# Altium schematic symbol library EG701_BMS.SchLib: 23 symbols
Pins are listed as number, name and electrical type; pins without a type are passive.

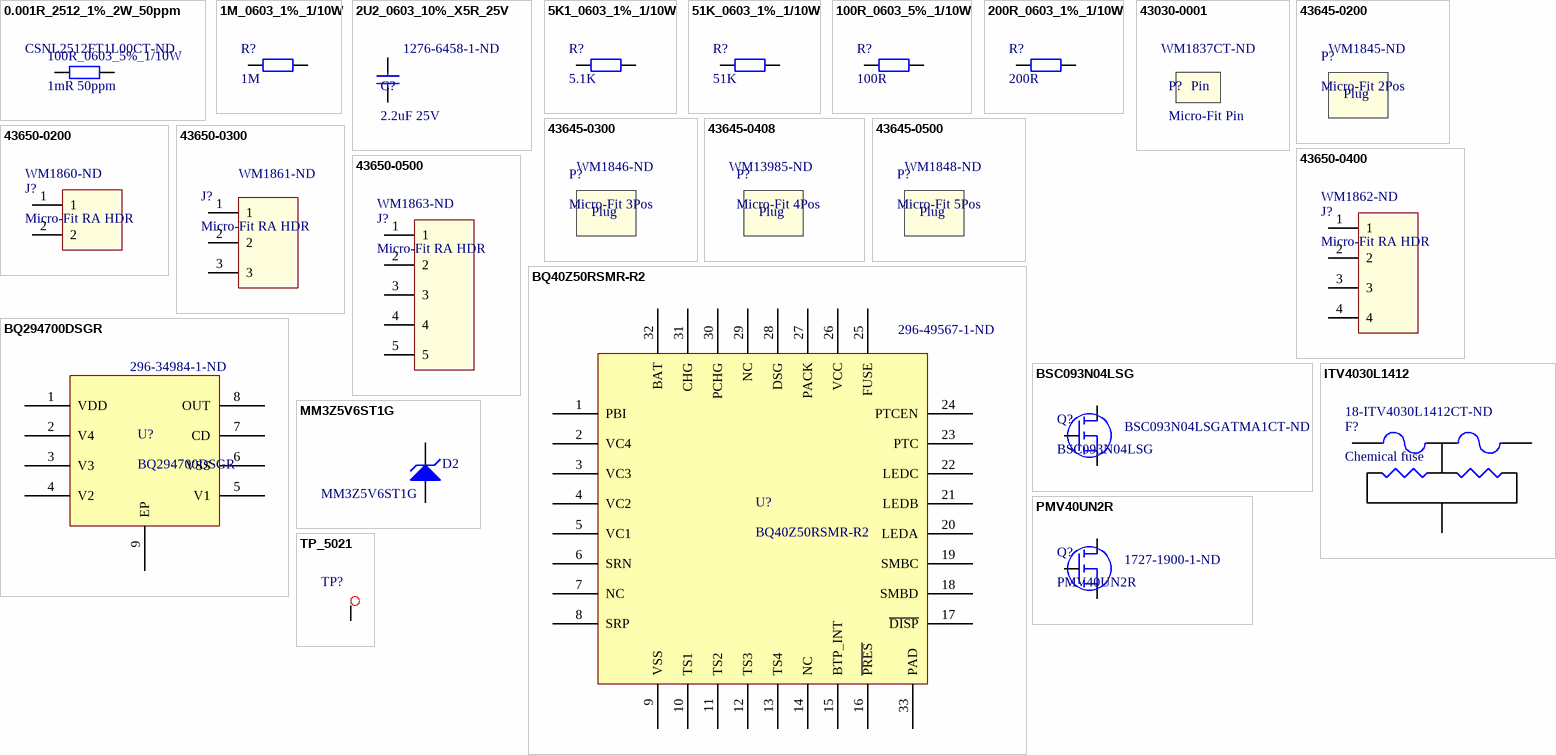
[diagram p0: symbols 0.001R_2512_1%_2W_50ppm to TP_5021]

## 0.001R_2512_1%_2W_50ppm
designator 100R_0603_5%_1/10W, comment 1mR 50ppm  Supplier Part Number 1: CSNL2512FT1L00CT-ND
RES 0.001 OHM 1% 2W 2512; Manufacturer 1: Stackpole Electronics; Manufacturer Part Number 1: CSNL2512FT1L00; Temperature Coefficient: 50ppm/°C; Supplier 1: Digi-Key; Stock 1: 126804; Pricing 1: 1=0.65000, 10=0.53900, 25=0.46200, 50=0.41580, 100=0.36190, 250=0.32340, 500=0.26180, 1000=0.21175 (USD); RoHS: Yes; Mount: Surface Mount; Case/Package: 2512; Contact Plating: Tin,Matte; Case Code (Metric): 6432; Case Code (Imperial): 2512; Min Operating Temperature: -55°C; Max Operating Temperature: 170°C; Max Power Dissipation: 2W; Composition: Metal Foil; Number of Terminations: 2; Packaging: Tape and Reel; Resistance: 1mR; Tolerance: 1%; Power Rating: 2W; Features: Moisture Resistant; Length: 0.25inch; Height: 0.033inch; Width: 0.125inch; Radiation Hardening: No; Lead Free: Lead Free; ComponentLink1URL: http://components.arrow.com/part/dataview/47858191S8378277N1174?src-supplier=Arrow; ComponentLink1Description: http://components.arrow.com/part/dataview/47858191S8378277N1174?src-supplier=Arrow; ComponentLink2URL: http://www.seielect.com/Catalog/SEI-csnl.pdf?src-supplier=Future+Electronics; ComponentLink2Description: http://www.seielect.com/Catalog/SEI-csnl.pdf?src-supplier=Future+Electronics; ComponentLink3URL: https://www.seielect.com/catalog/SEI-Packaging.pdf?src-supplier=Digi-Key; ComponentLink3Description: https://www.seielect.com/catalog/SEI-Packaging.pdf?src-supplier=Digi-Key; ComponentLink4URL: https://www.seielect.com/Catalog/SEI-csnl.pdf?src-supplier=Digi-Key; ComponentLink4Description: https://www.seielect.com/Catalog/SEI-csnl.pdf?src-supplier=Digi-Key; ComponentLink5URL: https://www.seielect.com/Catalog/SEI-CSNL.pdf?src-supplier=Avnet; ComponentLink5Description: https://www.seielect.com/Catalog/SEI-CSNL.pdf?src-supplier=Avnet
footprint R2512_M_GENERIC
pins: 1, 2

## 1M_0603_1%_1/10W
designator R?, comment 1M
Yageo RC Series Thick Film Surface Mount Resistor 0603 Case 1M 1% 0.1W 100ppm/C; Manufacturer Part Number 1: RC0603FR-071ML; Voltage Rating: 50V; Resistance: 1MR; Power Rating: 100mW; Temperature Coefficient: 100ppm/°C; Supplier 1: Digi-Key; Manufacturer 1: Yageo; Stock 1: 1716035; Pricing 1: 1=0.10000, 10=0.02200, 100=0.00900, 1000=0.00405, 2500=0.00352 (USD); RoHS: Yes; Case/Package: 0603; Number of Pins: 2; Case Code (Imperial): 0603; Case Code (Metric): 1608; Min Operating Temperature: -55°C; Max Operating Temperature: 155°C; Voltage Rating (DC): 50V; Tolerance: 1%; Packaging: Tape and Reel; Package Quantity: 5000; Termination: SMD/SMT; Composition: Thick Film; Military Standard: Not; Length: 1.6mm; Height: 0.45mm; Width: 0.8mm; Depth: 0.8mm; REACH SVHC: No SVHC; Lead Free: Lead Free; ComponentLink1URL: https://datasheet.ciiva.com/11819/0900766b80f96399-11819295.pdf?src-supplier=RSComponents; ComponentLink1Description: https://datasheet.ciiva.com/11819/0900766b80f96399-11819295.pdf?src-supplier=RSComponents; ComponentLink2URL: https://datasheet.ciiva.com/7983/443971-7983614.pdf?src-supplier=Element14; ComponentLink2Description: https://datasheet.ciiva.com/7983/443971-7983614.pdf?src-supplier=Element14; ComponentLink3URL: https://datasheet.ciiva.com/12555/rc0603-272842-12555388.pdf?src-supplier=Mouser; ComponentLink3Description: https://datasheet.ciiva.com/12555/rc0603-272842-12555388.pdf?src-supplier=Mouser; Supplier Part Number 1: 311-1.00MHRCT-ND
footprint R0603_GENERIC (http://www.vishay.com/docs/28745/soldpads.pdf)
pins: 1, 2

## 2U2_0603_10%_X5R_25V
designator C?, comment 2.2uF 25V  Supplier Part Number 1: 1276-6458-1-ND
Ceramic capacitor SMD 0805 2.2 µF 25 V 10 %; Manufacturer 1: Samsung; Manufacturer Part Number 1: CL21A225KAFNNNG; Tolerance: 10%; Supplier 1: Digi-Key; Stock 1: 290666; Pricing 1: 1=0.15000, 10=0.10500, 50=0.05940, 100=0.04920, 500=0.03452, 1000=0.02858 (USD); RoHS: Yes; Mount: Surface Mount; Case/Package: 0805; Case Code (Imperial): 0805; Case Code (Metric): 2012; Material: Ceramic; Min Operating Temperature: -55°C; Max Operating Temperature: 85°C; Package Quantity: 3000; Packaging: Tape and Reel; Capacitance: 2.2uF; Voltage Rating: 25V; Length: 0.079inch; Width: 0.049inch; Thickness: 0.053inch; ComponentLink1URL: https://datasheet.ciiva.com/25730/cl21a225kafnnng-25730829.pdf?src-supplier=Digi-Key; ComponentLink1Description: https://datasheet.ciiva.com/25730/cl21a225kafnnng-25730829.pdf?src-supplier=Digi-Key; ComponentLink2URL: https://datasheet.ciiva.com/29199/455579-da-01-en-vs-kondensator-0805-29199247.pdf?src-supplier=Conrad; ComponentLink2Description: https://datasheet.ciiva.com/29199/455579-da-01-en-vs-kondensator-0805-29199247.pdf?src-supplier=Conrad
footprint C0603_GENERIC
pins: 1, 2

## 5K1_0603_1%_1/10W
designator R?, comment 5.1K
RES SMD 5.1K OHM 1% 1/10W 0603; Manufacturer 1: Yageo; Manufacturer Part Number 1: RC0603FR-075K1L; Resistance: 5.1kR; Power Rating: 100mW; Voltage Rating: 50V; Temperature Coefficient: 100ppm/°C; Supplier 1: Digi-Key; Stock 1: 2194732; Pricing 1: 1=0.10000, 10=0.02200, 100=0.00900, 1000=0.00405, 2500=0.00352 (USD); RoHS: Yes; Case/Package: 0603; Number of Pins: 2; Case Code (Imperial): 0603; Case Code (Metric): 1608; Min Operating Temperature: -55°C; Max Operating Temperature: 155°C; Tolerance: 1%; Packaging: Tape and Reel; Package Quantity: 1; Termination: SMD/SMT; Composition: Thick Film; Number of Terminations: 2; Max Power Dissipation: 100mW; Voltage Rating (DC): 50V; Features: Moisture Resistant; Military Standard: Not; Length: 0.063inch; Height: 0.022inch; Width: 0.031inch; Depth: 0.8mm; Lead Free: Lead Free; REACH SVHC: No SVHC; ComponentLink1URL: https://datasheet.ciiva.com/46395/443971-46395016.pdf?src-supplier=Element14; ComponentLink1Description: https://datasheet.ciiva.com/46395/443971-46395016.pdf?src-supplier=Element14; ComponentLink2URL: https://datasheet.ciiva.com/15189/getdatasheetpartid-326732-15189786.pdf?src-supplier=Verical; ComponentLink2Description: https://datasheet.ciiva.com/15189/getdatasheetpartid-326732-15189786.pdf?src-supplier=Verical; ComponentLink3URL: https://datasheet.ciiva.com/2454/pyu-r-int-thick-7-2454045.pdf?src-supplier=Digi-Key; ComponentLink3Description: https://datasheet.ciiva.com/2454/pyu-r-int-thick-7-2454045.pdf?src-supplier=Digi-Key; ComponentLink4URL: https://datasheet.ciiva.com/2454/pyu-r-int-thick-7-2454046.pdf?src-supplier=Digi-Key; ComponentLink4Description: https://datasheet.ciiva.com/2454/pyu-r-int-thick-7-2454046.pdf?src-supplier=Digi-Key; ComponentLink5URL: https://datasheet.ciiva.com/2454/pyu-r-int-thick-7-2454047.pdf?src-supplier=Digi-Key; ComponentLink5Description: https://datasheet.ciiva.com/2454/pyu-r-int-thick-7-2454047.pdf?src-supplier=Digi-Key; Supplier Part Number 1: 311-5.10KHRCT-ND
footprint R0603_GENERIC (http://www.vishay.com/docs/28745/soldpads.pdf)
pins: 1, 2

## 51K_0603_1%_1/10W
designator R?, comment 51K
RES SMD 51K OHM 1% 1/10W 0603; Manufacturer 1: Yageo; Manufacturer Part Number 1: RC0603FR-0751KL; Voltage Rating (DC): 50V; Resistance: 51kR; Power Rating: 100mW; Temperature Coefficient: 100ppm/°C; Supplier 1: Digi-Key; Stock 1: 3246526; Pricing 1: 1=0.10000, 10=0.02200, 100=0.00900, 1000=0.00405, 2500=0.00352 (USD); RoHS: Yes; Case/Package: 0603; Number of Pins: 2; Case Code (Imperial): 0603; Case Code (Metric): 1608; Min Operating Temperature: -55°C; Max Operating Temperature: 155°C; Tolerance: 1%; Voltage Rating: 50V; Packaging: Tape and Reel; Package Quantity: 1; Features: Moisture Resistant; Termination: SMD/SMT; Composition: Thick Film; Number of Terminations: 2; Max Power Dissipation: 100mW; Length: 1.6mm; Height: 0.45mm; Width: 0.8mm; Depth: 0.8mm; Lead Free: Lead Free; REACH SVHC: No SVHC; ComponentLink1URL: https://datasheet.ciiva.com/11819/0900766b80f96399-11819378.pdf?src-supplier=RSComponents; ComponentLink1Description: https://datasheet.ciiva.com/11819/0900766b80f96399-11819378.pdf?src-supplier=RSComponents; ComponentLink2URL: https://datasheet.ciiva.com/12558/rc0603-272842-12558554.pdf?src-supplier=Mouser; ComponentLink2Description: https://datasheet.ciiva.com/12558/rc0603-272842-12558554.pdf?src-supplier=Mouser; ComponentLink3URL: https://datasheet.ciiva.com/2454/pyu-r-int-thick-7-2454123.pdf?src-supplier=Digi-Key; ComponentLink3Description: https://datasheet.ciiva.com/2454/pyu-r-int-thick-7-2454123.pdf?src-supplier=Digi-Key; ComponentLink4URL: https://datasheet.ciiva.com/2454/pyu-r-int-thick-7-2454124.pdf?src-supplier=Digi-Key; ComponentLink4Description: https://datasheet.ciiva.com/2454/pyu-r-int-thick-7-2454124.pdf?src-supplier=Digi-Key; ComponentLink5URL: https://datasheet.ciiva.com/2454/pyu-r-int-thick-7-2454125.pdf?src-supplier=Digi-Key; ComponentLink5Description: https://datasheet.ciiva.com/2454/pyu-r-int-thick-7-2454125.pdf?src-supplier=Digi-Key; ComponentLink6URL: https://datasheet.ciiva.com/46395/443971-46395014.pdf?src-supplier=Element14; ComponentLink6Description: https://datasheet.ciiva.com/46395/443971-46395014.pdf?src-supplier=Element14; Supplier Part Number 1: 311-51.0KHRCT-ND
footprint R0603_GENERIC (http://www.vishay.com/docs/28745/soldpads.pdf)
pins: 1, 2

## 100R_0603_5%_1/10W
designator R?, comment 100R
Res Thick Film 0603 100 Ohm 5% 0.1W(1/10W) ±100ppm/C Molded SMD Paper T/R; Manufacturer 1: Yageo; Manufacturer Part Number 1: RC0603JR-07100RL; Power Rating: 100mW; Voltage Rating: 50V; Temperature Coefficient: 100ppm/°C; Supplier 1: Digi-Key; Stock 1: 6886393; Pricing 1: 1=0.10000, 10=0.01800, 100=0.00740, 1000=0.00334, 2500=0.00290 (USD); RoHS: Yes; Case/Package: 0603; Number of Pins: 2; Case Code (Imperial): 0603; Case Code (Metric): 1608; Contact Plating: Tin,Matte; Min Operating Temperature: -55°C; Max Operating Temperature: 155°C; Resistance: 100R; Tolerance: 5%; Packaging: Tape and Reel; Voltage Rating (DC): 50V; Termination: SMD/SMT; Composition: Thick Film; Military Standard: Not; Length: 1.6mm; Width: 0.8mm; Depth: 0.8mm; Radiation Hardening: No; REACH SVHC: Unknown; Lead Free: Lead Free; ComponentLink1URL: https://datasheet.ciiva.com/15189/getdatasheetpartid-325207-15189846.pdf?src-supplier=Verical; ComponentLink1Description: https://datasheet.ciiva.com/15189/getdatasheetpartid-325207-15189846.pdf?src-supplier=Verical; ComponentLink2URL: https://datasheet.ciiva.com/7746/443971-7746425.pdf?src-supplier=Element14; ComponentLink2Description: https://datasheet.ciiva.com/7746/443971-7746425.pdf?src-supplier=Element14; ComponentLink3URL: https://datasheet.ciiva.com/8883/pyu-rc0603-51-rohs-l-4-8883047.pdf?src-supplier=Avnet; ComponentLink3Description: https://datasheet.ciiva.com/8883/pyu-rc0603-51-rohs-l-4-8883047.pdf?src-supplier=Avnet; ComponentLink4URL: https://datasheet.ciiva.com/7746/443971-7746426.pdf?src-supplier=Element14; ComponentLink4Description: https://datasheet.ciiva.com/7746/443971-7746426.pdf?src-supplier=Element14; Supplier Part Number 1: 311-100GRCT-ND
footprint R0603_GENERIC (http://www.vishay.com/docs/28745/soldpads.pdf)
pins: 1, 2

## 200R_0603_1%_1/10W
designator R?, comment 200R
RES SMD 200 OHM 1% 1/10W 0603; Manufacturer 1: Yageo; Manufacturer Part Number 1: RC0603FR-07200RL; Temperature Coefficient: 100ppm/°C; Power Rating: 100mW; Voltage Rating: 50V; Working Voltage: 75V; Supplier 1: Digi-Key; Stock 1: 2577421; Pricing 1: 1=0.10000, 10=0.02200, 100=0.00900, 1000=0.00405, 2500=0.00352 (USD); RoHS: Yes; Case/Package: 0603; Number of Pins: 2; Case Code (Imperial): 0603; Case Code (Metric): 1608; Min Operating Temperature: -55°C; Max Operating Temperature: 155°C; Termination: SMD/SMT; Composition: Thick Film; Packaging: Tape and Reel; Resistance: 200R; Tolerance: 1%; Package Quantity: 5000; Voltage Rating (DC): 50V; Number of Terminations: 2; Military Standard: Not; Length: 1.6mm; Height: 0.45mm; Depth: 0.8mm; Width: 0.8mm; Lead Free: Lead Free; REACH SVHC: No SVHC; ComponentLink1URL: https://datasheet.ciiva.com/11809/0900766b80f96399-11809240.pdf?src-supplier=RSComponents; ComponentLink1Description: https://datasheet.ciiva.com/11809/0900766b80f96399-11809240.pdf?src-supplier=RSComponents; ComponentLink2URL: https://datasheet.ciiva.com/46395/443971-46395029.pdf?src-supplier=Element14; ComponentLink2Description: https://datasheet.ciiva.com/46395/443971-46395029.pdf?src-supplier=Element14; Supplier Part Number 1: 311-200HRCT-ND
footprint R0603_GENERIC (http://www.vishay.com/docs/28745/soldpads.pdf)
pins: 1, 2

## 43030-0001
designator P?, comment Micro-Fit Pin  Supplier Part Number 1: WM1837CT-ND  (mechanical)
microfit 3.0 female crimp terminal 20-24 awg; Manufacturer 1: Molex; Manufacturer Part Number 1: 43030-0001; Connector Type: Connector,PCB,Signal,Power,Crimp,Socket; Current Rating: 5A; Contact Resistance: 10mR; Voltage Rating: 250V; Shielding: Unshielded; Wire Gauge (Max): 20AWG; Wire Gauge (Min): 24AWG; Glow Wire Compliant: Non-compliant; Supplier 1: Digi-Key; Stock 1: 910268; Pricing 1: 1=0.11000, 10=0.10800, 25=0.08000, 50=0.06860, 100=0.06640, 250=0.05720, 500=0.05492, 1000=0.04805, 2500=0.04347 (USD); RoHS: Yes; Mount: Cable; Case/Package: 0001; Contact Plating: Tin; Contact Material: Bronze,Tin; Min Operating Temperature: -40°C; Max Operating Temperature: 105°C; Termination: Crimp; Packaging: Tape and Reel; Number of Rows: 2; Orientation: Straight; Package Quantity: 12000; Gender: Female; Contact Gender: Female; Max Current Rating: 5A; Voltage Rating (DC): 250V; Length: 11mm; Height: 2.29mm; Depth: 2.54mm; Wire/Cable Gauge: 24AWG; Radiation Hardening: No; Lead Free: Lead Free; REACH SVHC: Unknown; Halogen Free: Low Halogen; ComponentLink1URL: https://datasheet.ciiva.com/25907/0430300001-crimp-terminals-25907746.pdf?src-supplier=Avnet+Europe; ComponentLink1Description: https://datasheet.ciiva.com/25907/0430300001-crimp-terminals-25907746.pdf?src-supplier=Avnet+Europe; ComponentLink2URL: https://datasheet.ciiva.com/16134/1669030430300001-crimp-terminals-16134517.pdf?src-supplier=Onlinecomponents.com; ComponentLink2Description: https://datasheet.ciiva.com/16134/1669030430300001-crimp-terminals-16134517.pdf?src-supplier=Onlinecomponents.com; ComponentLink3URL: https://datasheet.ciiva.com/28644/1710118-28644501.pdf?src-supplier=Element14; ComponentLink3Description: https://datasheet.ciiva.com/28644/1710118-28644501.pdf?src-supplier=Element14; ComponentLink4URL: https://datasheet.ciiva.com/3916/100050430300001-crimp-terminals-3916634.pdf?src-supplier=Arrow+Electronics; ComponentLink4Description: https://datasheet.ciiva.com/3916/100050430300001-crimp-terminals-3916634.pdf?src-supplier=Arrow+Electronics; ComponentLink5URL: https://datasheet.ciiva.com/30259/0430300001-crimp-terminals-30259530.pdf?src-supplier=Onlinecomponents.com; ComponentLink5Description: https://datasheet.ciiva.com/30259/0430300001-crimp-terminals-30259530.pdf?src-supplier=Onlinecomponents.com; ComponentLink6URL: https://datasheet.ciiva.com/34303/1931851-34303323.pdf?src-supplier=Jameco; ComponentLink6Description: https://datasheet.ciiva.com/34303/1931851-34303323.pdf?src-supplier=Jameco; ComponentLink7URL: https://datasheet.ciiva.com/11721/0900766b80d5b250-11721212.pdf?src-supplier=RSComponents; ComponentLink7Description: https://datasheet.ciiva.com/11721/0900766b80d5b250-11721212.pdf?src-supplier=RSComponents; ComponentLink8URL: https://datasheet.ciiva.com/5156/0430300001-crimp-terminals-5156149.pdf?src-supplier=Mouser; ComponentLink8Description: https://datasheet.ciiva.com/5156/0430300001-crimp-terminals-5156149.pdf?src-supplier=Mouser; ComponentLink9URL: https://datasheet.ciiva.com/32422/04402477-1-32422378.pdf?src-supplier=Distrelec; ComponentLink9Description: https://datasheet.ciiva.com/32422/04402477-1-32422378.pdf?src-supplier=Distrelec; ComponentLink10URL: https://datasheet.ciiva.com/10409/0430300001-crimp-terminals-10409455.pdf?src-supplier=Avnet; ComponentLink10Description: https://datasheet.ciiva.com/10409/0430300001-crimp-terminals-10409455.pdf?src-supplier=Avnet
text: Pin

## 43645-0200
designator P?, comment Micro-Fit 2Pos  Supplier Part Number 1: WM1845-ND  (mechanical)
Female contact housing single row 3 mm Pole no. 1x2 Micro-Fit, 43645-0200, Molex; Connector Type: Socket,Power,Rectangular; Number of Positions: 2; Gender: Receptacle; Current Rating: 5A; Voltage Rating: 600V; Contact Resistance: 10MR; Voltage Rating (AC): 250V; Pitch: 3mm; Glow Wire Compliant: Non-compliant; Approvals: UL,CSA,TUV; Supplier 1: Digi-Key; Manufacturer 1: Molex; Manufacturer Part Number 1: 43645-0200; Stock 1: 146748; Pricing 1: 1=0.32000, 10=0.30600, 25=0.26240, 50=0.22280, 100=0.21410, 250=0.19228, 500=0.18354, 1000=0.15295, 2500=0.13984 (USD); RoHS: Yes; Mount: Free Hanging,Cable; Color: Black; Housing Material: Nylon; Contact Material: Bronze; Contact Plating: Nickel; Housing Color: Black; Material: Polyester; Min Operating Temperature: -40°C; Max Operating Temperature: 105°C; Packaging: Bulk; Termination: Crimp; Orientation: Straight; Number of Rows: 1; Number of Contacts: 2; Package Quantity: 5000; Number of Circuits: 2; Number of Poles: 2; Working Voltage: 250V; Length: 8.28mm; Height: 5.3mm; Depth: 14mm; Radiation Hardening: No; Flammability Rating: UL94 V-0; REACH SVHC: Unknown; Halogen Free: Low Halogen; Lead Free: Lead Free; ComponentLink1URL: https://datasheet.ciiva.com/16661/0436450200-crimp-housings-16661793.pdf?src-supplier=Avnet+Europe; ComponentLink1Description: https://datasheet.ciiva.com/16661/0436450200-crimp-housings-16661793.pdf?src-supplier=Avnet+Europe; ComponentLink2URL: https://datasheet.ciiva.com/16127/0436450200-crimp-housings-16127842.pdf?src-supplier=Onlinecomponents.com; ComponentLink2Description: https://datasheet.ciiva.com/16127/0436450200-crimp-housings-16127842.pdf?src-supplier=Onlinecomponents.com; ComponentLink3URL: https://datasheet.ciiva.com/15178/getdatasheetpartid-152868-15178725.pdf?src-supplier=Verical; ComponentLink3Description: https://datasheet.ciiva.com/15178/getdatasheetpartid-152868-15178725.pdf?src-supplier=Verical; ComponentLink4URL: https://datasheet.ciiva.com/5158/0436450200-crimp-housings-148631-5158919.pdf?src-supplier=Mouser; ComponentLink4Description: https://datasheet.ciiva.com/5158/0436450200-crimp-housings-148631-5158919.pdf?src-supplier=Mouser; ComponentLink5URL: https://datasheet.ciiva.com/19472/883974-19472986.pdf?src-supplier=Jameco; ComponentLink5Description: https://datasheet.ciiva.com/19472/883974-19472986.pdf?src-supplier=Jameco; ComponentLink6URL: https://datasheet.ciiva.com/11718/0900766b8024dedf-11718029.pdf?src-supplier=RSComponents; ComponentLink6Description: https://datasheet.ciiva.com/11718/0900766b8024dedf-11718029.pdf?src-supplier=RSComponents; ComponentLink7URL: https://datasheet.ciiva.com/1446/1898109-1446803.pdf?src-supplier=Element14; ComponentLink7Description: https://datasheet.ciiva.com/1446/1898109-1446803.pdf?src-supplier=Element14; ComponentLink8URL: https://datasheet.ciiva.com/14155/04401883-14155295.pdf?src-supplier=Distrelec; ComponentLink8Description: https://datasheet.ciiva.com/14155/04401883-14155295.pdf?src-supplier=Distrelec
text: Plug

## 43645-0300
designator P?, comment Micro-Fit 3Pos  Supplier Part Number 1: WM1846-ND  (mechanical)
MICRO-FIT 3.0 Series 3mm Pitch 3 Way 1 Row Female Straight PCB Housing 43645; Manufacturer 1: Molex; Manufacturer Part Number 1: 43645-0300; Connector Type: Socket,Power,Rectangular; Number of Positions: 3; Gender: Receptacle; Current Rating: 5A; Voltage Rating: 600V; Contact Resistance: 10MR; Voltage Rating (AC): 250V; Glow Wire Compliant: Non-compliant; Approvals: UL,CSA,TUV; Supplier 1: Digi-Key; Stock 1: 82426; Pricing 1: 1=0.38000, 10=0.36000, 25=0.30880, 50=0.26240, 100=0.25210, 250=0.22640, 500=0.21610, 1000=0.18008, 2500=0.16464 (USD); RoHS: Yes; Mount: Free Hanging; Color: Black; Housing Material: Polyester; Contact Material: Bronze; Contact Plating: Nickel; Housing Color: Black; Material: Polyester; Min Operating Temperature: -40°C; Max Operating Temperature: 105°C; Packaging: Bulk; Termination: Crimp; Orientation: Straight; Number of Rows: 1; Number of Contacts: 3; Package Quantity: 5000; Number of Circuits: 3; Number of Poles: 3; Working Voltage: 250V; Length: 9.85mm; Height: 5.3mm; Pitch: 3mm; Depth: 14mm; Radiation Hardening: No; Flammability Rating: UL94 V-0; Lead Free: Lead Free; REACH SVHC: Unknown; Halogen Free: Low Halogen; ComponentLink1URL: https://datasheet.ciiva.com/5157/0436450300-crimp-housings-148841-5157922.pdf?src-supplier=Mouser; ComponentLink1Description: https://datasheet.ciiva.com/5157/0436450300-crimp-housings-148841-5157922.pdf?src-supplier=Mouser; ComponentLink2URL: https://datasheet.ciiva.com/19473/883991-19473715.pdf?src-supplier=Jameco; ComponentLink2Description: https://datasheet.ciiva.com/19473/883991-19473715.pdf?src-supplier=Jameco; ComponentLink3URL: https://datasheet.ciiva.com/16661/0436450300-crimp-housings-16661794.pdf?src-supplier=Avnet+Europe; ComponentLink3Description: https://datasheet.ciiva.com/16661/0436450300-crimp-housings-16661794.pdf?src-supplier=Avnet+Europe; ComponentLink4URL: https://datasheet.ciiva.com/11718/0900766b8024dedf-11718164.pdf?src-supplier=RSComponents; ComponentLink4Description: https://datasheet.ciiva.com/11718/0900766b8024dedf-11718164.pdf?src-supplier=RSComponents; ComponentLink5URL: https://datasheet.ciiva.com/16127/0436450300-crimp-housings-16127846.pdf?src-supplier=Onlinecomponents.com; ComponentLink5Description: https://datasheet.ciiva.com/16127/0436450300-crimp-housings-16127846.pdf?src-supplier=Onlinecomponents.com; ComponentLink6URL: https://datasheet.ciiva.com/14155/04401883-14155256.pdf?src-supplier=Distrelec; ComponentLink6Description: https://datasheet.ciiva.com/14155/04401883-14155256.pdf?src-supplier=Distrelec; ComponentLink7URL: https://datasheet.ciiva.com/1446/1898110-1446884.pdf?src-supplier=Element14; ComponentLink7Description: https://datasheet.ciiva.com/1446/1898110-1446884.pdf?src-supplier=Element14; ComponentLink8URL: https://datasheet.ciiva.com/45847/97750436450300-crimp-housings-45847222.pdf?src-supplier=Onlinecomponents.com; ComponentLink8Description: https://datasheet.ciiva.com/45847/97750436450300-crimp-housings-45847222.pdf?src-supplier=Onlinecomponents.com; ComponentLink9URL: https://datasheet.ciiva.com/18453/70190864-18453659.pdf?src-supplier=Allied+Electronics; ComponentLink9Description: https://datasheet.ciiva.com/18453/70190864-18453659.pdf?src-supplier=Allied+Electronics; ComponentLink10URL: https://datasheet.ciiva.com/16660/0436450300-crimp-housings-16660890.pdf?src-supplier=Avnet+Europe; ComponentLink10Description: https://datasheet.ciiva.com/16660/0436450300-crimp-housings-16660890.pdf?src-supplier=Avnet+Europe; ComponentLink11URL: https://datasheet.ciiva.com/10392/0436450300-crimp-housings-10392092.pdf?src-supplier=Avnet; ComponentLink11Description: https://datasheet.ciiva.com/10392/0436450300-crimp-housings-10392092.pdf?src-supplier=Avnet
text: Plug

## 43645-0408
designator P?, comment Micro-Fit 4Pos  Supplier Part Number 1: WM13985-ND  (mechanical)
Conn Housing F 4 POS 3mm Crimp ST Cable Mount Micro-Fit 3.0™ Bag; Manufacturer 1: Molex; Manufacturer Part Number 1: 0436450408; Connector Type: Receptacle,Socket; Number of Positions: 4; Gender: Female; Supplier 1: Digi-Key; Stock 1: 10634; Pricing 1: 1=0.51000, 10=0.47600, 25=0.42880, 50=0.38120, 100=0.36520, 250=0.33348, 500=0.31760, 1000=0.26202, 2500=0.23820 (USD); RoHS: Yes; Mount: Free Hanging; Color: Black; Packaging: Bulk; Number of Rows: 1; Orientation: Straight; Package Quantity: 3000; Number of Contacts: 4; Fastening Type: Latch; Termination: Crimp; Length: 12.85mm; Pitch: 3mm; Depth: 14mm; Radiation Hardening: No; ComponentLink1URL: https://datasheet.ciiva.com/6793/436450608-sd-6793924.pdf?src-supplier=Digi-Key; ComponentLink1Description: https://datasheet.ciiva.com/6793/436450608-sd-6793924.pdf?src-supplier=Digi-Key; ComponentLink2URL: https://datasheet.ciiva.com/3923/279960436450408-crimp-housings-3923345.pdf?src-supplier=Arrow+Electronics; ComponentLink2Description: https://datasheet.ciiva.com/3923/279960436450408-crimp-housings-3923345.pdf?src-supplier=Arrow+Electronics
text: Plug

## 43645-0500
designator P?, comment Micro-Fit 5Pos  Supplier Part Number 1: WM1848-ND  (mechanical)
GLOVE, POLYAMIDE, L/FREE, PU, SIZE 6 - More Details; Manufacturer 1: Molex; Manufacturer Part Number 1: 43645-0500; Number of Positions: 5; Gender: Female; Current Rating: 5A; Voltage Rating: 600V; Pitch: 3mm; Glow Wire Compliant: Non-compliant; Approvals: UL,CSA,TUV; Supplier 1: Digi-Key; Stock 1: 18539; Pricing 1: 1=0.42000, 10=0.39000, 25=0.35120, 50=0.31220, 100=0.29920, 250=0.27320, 500=0.26020, 1000=0.21467, 2500=0.19515 (USD); RoHS: Yes; Mount: Cable; Color: Black; Housing Material: Polyester; Housing Color: Black; Min Operating Temperature: -40°C; Max Operating Temperature: 105°C; Packaging: Bulk; Termination: Crimp; Orientation: Straight; Number of Rows: 1; Number of Contacts: 5; Package Quantity: 2500; Number of Circuits: 5; Contact Gender: Female; Length: 15.85mm; Height: 5.3mm; Depth: 14mm; Radiation Hardening: No; Flammability Rating: UL94 V-0; Lead Free: Lead Free; REACH SVHC: Unknown; ComponentLink1URL: https://datasheet.ciiva.com/30243/0436450500-crimp-housings-30243008.pdf?src-supplier=Onlinecomponents.com; ComponentLink1Description: https://datasheet.ciiva.com/30243/0436450500-crimp-housings-30243008.pdf?src-supplier=Onlinecomponents.com; ComponentLink2URL: https://datasheet.ciiva.com/10401/0436450500-crimp-housings-10401377.pdf?src-supplier=Avnet; ComponentLink2Description: https://datasheet.ciiva.com/10401/0436450500-crimp-housings-10401377.pdf?src-supplier=Avnet; ComponentLink3URL: https://datasheet.ciiva.com/11718/0900766b8024dedf-11718881.pdf?src-supplier=RSComponents; ComponentLink3Description: https://datasheet.ciiva.com/11718/0900766b8024dedf-11718881.pdf?src-supplier=RSComponents; ComponentLink4URL: https://datasheet.ciiva.com/1454/1631139-1454948.pdf?src-supplier=Farnell; ComponentLink4Description: https://datasheet.ciiva.com/1454/1631139-1454948.pdf?src-supplier=Farnell; ComponentLink5URL: https://datasheet.ciiva.com/19473/884011-19473046.pdf?src-supplier=Jameco; ComponentLink5Description: https://datasheet.ciiva.com/19473/884011-19473046.pdf?src-supplier=Jameco; ComponentLink6URL: https://datasheet.ciiva.com/16127/679980436450500-crimp-housings-16127855.pdf?src-supplier=Onlinecomponents.com; ComponentLink6Description: https://datasheet.ciiva.com/16127/679980436450500-crimp-housings-16127855.pdf?src-supplier=Onlinecomponents.com; ComponentLink7URL: https://datasheet.ciiva.com/16660/0436450500-crimp-housings-16660693.pdf?src-supplier=Avnet+Europe; ComponentLink7Description: https://datasheet.ciiva.com/16660/0436450500-crimp-housings-16660693.pdf?src-supplier=Avnet+Europe; ComponentLink8URL: https://datasheet.ciiva.com/1446/1597443-1446886.pdf?src-supplier=Element14; ComponentLink8Description: https://datasheet.ciiva.com/1446/1597443-1446886.pdf?src-supplier=Element14; ComponentLink9URL: https://datasheet.ciiva.com/1446/1631139-1446887.pdf?src-supplier=Element14; ComponentLink9Description: https://datasheet.ciiva.com/1446/1631139-1446887.pdf?src-supplier=Element14; ComponentLink10URL: https://datasheet.ciiva.com/14155/04401883-14155258.pdf?src-supplier=Distrelec; ComponentLink10Description: https://datasheet.ciiva.com/14155/04401883-14155258.pdf?src-supplier=Distrelec
text: Plug

## 43650-0200
designator J?, comment Micro-Fit RA HDR  Supplier Part Number 1: WM1860-ND
MOLEX   43650-0200   HEADER, R/A, SINGLE ROW, 2 WAY; Contact Resistance: 10mR; Number of Positions: 2; Connector Type: Plug,Socket; Current Rating: 5A; Voltage Rating (AC): 250V; Voltage Rating: 600V; Gender: Male; Insulation Resistance: 1GR; Pitch: 3mm; Glow Wire Compliant: Compliant; Supplier 1: Digi-Key; Manufacturer 1: Molex; Manufacturer Part Number 1: 43650-0200; Stock 1: 15790; Pricing 1: 1=0.96000, 10=0.84100, 100=0.72560, 500=0.59364, 1000=0.52768, 5000=0.46172, 10000=0.43863 (USD); RoHS: Yes; Mount: Through Hole; Contact Plating: Tin; Contact Material: Brass,Tin; Color: Black; Housing Color: Black; Housing Material: Thermoplastic; Min Operating Temperature: -40°C; Max Operating Temperature: 105°C; Number of Rows: 1; Packaging: Tray; Termination: Solder; Number of Contacts: 2; Orientation: Right Angle; Package Quantity: 3927; Working Voltage: 250V; Number of Circuits: 2; Voltage Rating (DC): 250V; Length: 9.65mm; Height: 5.57mm; Depth: 9.9mm; Radiation Hardening: No; Flammability Rating: UL94 V-0; REACH SVHC: Unknown; Halogen Free: Low Halogen; Lead Free: Lead Free; ComponentLink1URL: https://datasheet.ciiva.com/14155/04402066-14155224.pdf?src-supplier=Distrelec; ComponentLink1Description: https://datasheet.ciiva.com/14155/04402066-14155224.pdf?src-supplier=Distrelec; ComponentLink2URL: https://datasheet.ciiva.com/5158/0436500200-pcb-headers-148844-5158523.pdf?src-supplier=Mouser; ComponentLink2Description: https://datasheet.ciiva.com/5158/0436500200-pcb-headers-148844-5158523.pdf?src-supplier=Mouser; ComponentLink3URL: https://datasheet.ciiva.com/11748/0900766b80d6135b-11748140.pdf?src-supplier=RSComponents; ComponentLink3Description: https://datasheet.ciiva.com/11748/0900766b80d6135b-11748140.pdf?src-supplier=RSComponents; ComponentLink4URL: https://datasheet.ciiva.com/22683/1709823-22683551.pdf?src-supplier=Element14; ComponentLink4Description: https://datasheet.ciiva.com/22683/1709823-22683551.pdf?src-supplier=Element14; ComponentLink5URL: https://datasheet.ciiva.com/30161/48630436500200-pcb-headers-30161343.pdf?src-supplier=Onlinecomponents.com; ComponentLink5Description: https://datasheet.ciiva.com/30161/48630436500200-pcb-headers-30161343.pdf?src-supplier=Onlinecomponents.com; ComponentLink6URL: https://datasheet.ciiva.com/9432/0436500200-pcb-headers-9432849.pdf?src-supplier=Avnet; ComponentLink6Description: https://datasheet.ciiva.com/9432/0436500200-pcb-headers-9432849.pdf?src-supplier=Avnet; ComponentLink7URL: https://datasheet.ciiva.com/16089/1029720436500200-pcb-headers-16089218.pdf?src-supplier=Onlinecomponents.com; ComponentLink7Description: https://datasheet.ciiva.com/16089/1029720436500200-pcb-headers-16089218.pdf?src-supplier=Onlinecomponents.com; ComponentLink8URL: https://datasheet.ciiva.com/7920/1839562-7920756.pdf?src-supplier=Element14; ComponentLink8Description: https://datasheet.ciiva.com/7920/1839562-7920756.pdf?src-supplier=Element14; ComponentLink9URL: https://datasheet.ciiva.com/19462/884053-19462312.pdf?src-supplier=Jameco; ComponentLink9Description: https://datasheet.ciiva.com/19462/884053-19462312.pdf?src-supplier=Jameco; ComponentLink10URL: https://datasheet.ciiva.com/16654/0436500200-pcb-headers-16654958.pdf?src-supplier=Avnet+Europe; ComponentLink10Description: https://datasheet.ciiva.com/16654/0436500200-pcb-headers-16654958.pdf?src-supplier=Avnet+Europe
footprint 436500200 (Molex MicroFit RA 2P)
pins: 1, 2

## 43650-0300
designator J?, comment Micro-Fit RA HDR  Supplier Part Number 1: WM1861-ND
MOLEX - 43650-0300 - Wire-To-Board-Steckverbinder, 3 mm, 3 Kontakt(e), Stiftleiste, Baureihe Micro-Fit 3.0 43650; Number of Positions: 3; Contact Resistance: 10mR; Connector Type: Power,Rectangular; Max Voltage Rating (AC): 250V; Gender: Male; Insulation Resistance: 1GR; Voltage Rating: 600V; Current Rating: 5A; Pitch: 3mm; Glow Wire Compliant: Compliant; Supplier 1: Digi-Key; Manufacturer 1: Molex; Manufacturer Part Number 1: 43650-0300; Stock 1: 35363; Pricing 1: 1=1.10000, 10=0.96400, 100=0.83160, 500=0.68040, 1000=0.60480, 5000=0.52920, 10000=0.50274 (USD); RoHS: Yes; Mount: Through Hole,PCB; Color: Black; Housing Color: Black; Contact Material: Brass,Tin; Contact Plating: Tin,Lead,Bright; Housing Material: Thermoplastic; Min Operating Temperature: -40°C; Max Operating Temperature: 105°C; Termination: Solder; Orientation: Right Angle; Number of Rows: 1; Packaging: Tray; Number of Contacts: 3; Working Voltage: 250V; Voltage Rating (DC): 250V; Number of Circuits: 3; Number of Poles: 3; Package Quantity: 2975; Voltage Rating (AC): 250V; Max Current Rating: 5A; Length: 12.65mm; Height: 14.4mm; Depth: 9.9mm; Radiation Hardening: No; REACH SVHC: Unknown; Halogen Free: Low Halogen; Lead Free: Lead Free; Flammability Rating: UL94 V-0; ComponentLink1URL: https://datasheet.ciiva.com/30189/0436500300-pcb-headers-30189026.pdf?src-supplier=Onlinecomponents.com; ComponentLink1Description: https://datasheet.ciiva.com/30189/0436500300-pcb-headers-30189026.pdf?src-supplier=Onlinecomponents.com; ComponentLink2URL: https://datasheet.ciiva.com/16089/437910436500300-pcb-headers-16089189.pdf?src-supplier=Onlinecomponents.com; ComponentLink2Description: https://datasheet.ciiva.com/16089/437910436500300-pcb-headers-16089189.pdf?src-supplier=Onlinecomponents.com; ComponentLink3URL: https://datasheet.ciiva.com/5153/0436500300-pcb-headers-148847-5153495.pdf?src-supplier=Mouser; ComponentLink3Description: https://datasheet.ciiva.com/5153/0436500300-pcb-headers-148847-5153495.pdf?src-supplier=Mouser; ComponentLink4URL: https://datasheet.ciiva.com/11747/0900766b80d6135b-11747857.pdf?src-supplier=RSComponents; ComponentLink4Description: https://datasheet.ciiva.com/11747/0900766b80d6135b-11747857.pdf?src-supplier=RSComponents; ComponentLink5URL: https://datasheet.ciiva.com/16654/0436500300-pcb-headers-16654467.pdf?src-supplier=Avnet+Europe; ComponentLink5Description: https://datasheet.ciiva.com/16654/0436500300-pcb-headers-16654467.pdf?src-supplier=Avnet+Europe; ComponentLink6URL: https://datasheet.ciiva.com/19462/884141-19462202.pdf?src-supplier=Jameco; ComponentLink6Description: https://datasheet.ciiva.com/19462/884141-19462202.pdf?src-supplier=Jameco; ComponentLink7URL: https://datasheet.ciiva.com/9432/0436500300-pcb-headers-9432853.pdf?src-supplier=Avnet; ComponentLink7Description: https://datasheet.ciiva.com/9432/0436500300-pcb-headers-9432853.pdf?src-supplier=Avnet
footprint 436500300 (Molex MicroFit RA 3P)
pins: 1, 2, 3

## 43650-0400
designator J?, comment Micro-Fit RA HDR  Supplier Part Number 1: WM1862-ND
MOLEX         43650-0400             Wire-To-Board Connector, Micro-Fit 3.0 43650 Series, Solder, Header, 4 Contacts, 3 mm; Connector Type: Plug,Socket; Number of Positions: 4; Gender: Male; Voltage Rating (DC): 250V; Max Voltage Rating (AC): 600V; Current Rating: 5A; Contact Resistance: 10mR; Pitch: 3mm; Glow Wire Compliant: Compliant; Supplier 1: Digi-Key; Manufacturer 1: Molex; Manufacturer Part Number 1: 43650-0400; Stock 1: 6849; Pricing 1: 1=1.36000, 10=1.23000, 100=1.05400, 500=0.87832, 1000=0.75285, 5000=0.66753, 10000=0.65247 (USD); RoHS: Yes; Mount: Through Hole,Cable; Color: Black; Housing Material: Thermoplastic; Contact Material: Brass,Copper Alloy; Contact Plating: Tin,Bright; Housing Color: Black; Min Operating Temperature: -40°C; Max Operating Temperature: 105°C; Termination: Solder; Number of Contacts: 4; Orientation: Right Angle; Number of Rows: 1; Packaging: Tray; Number of Circuits: 4; Voltage Rating: 600V; Package Quantity: 2380; Length: 14.86mm; Height: 4.5mm; Depth: 3.6mm; Radiation Hardening: No; Flammability Rating: UL94 V-0; Halogen Free: Low Halogen; Lead Free: Contains Lead; REACH SVHC: Unknown; ComponentLink1URL: https://datasheet.ciiva.com/11748/0900766b80d6135b-11748178.pdf?src-supplier=RSComponents; ComponentLink1Description: https://datasheet.ciiva.com/11748/0900766b80d6135b-11748178.pdf?src-supplier=RSComponents; ComponentLink2URL: https://datasheet.ciiva.com/16085/0436500400-pcb-headers-16085752.pdf?src-supplier=Onlinecomponents.com; ComponentLink2Description: https://datasheet.ciiva.com/16085/0436500400-pcb-headers-16085752.pdf?src-supplier=Onlinecomponents.com; ComponentLink3URL: https://datasheet.ciiva.com/5151/0436500400-pcb-headers-148663-5151881.pdf?src-supplier=Mouser; ComponentLink3Description: https://datasheet.ciiva.com/5151/0436500400-pcb-headers-148663-5151881.pdf?src-supplier=Mouser; ComponentLink4URL: https://datasheet.ciiva.com/19462/884184-19462234.pdf?src-supplier=Jameco; ComponentLink4Description: https://datasheet.ciiva.com/19462/884184-19462234.pdf?src-supplier=Jameco; ComponentLink5URL: https://datasheet.ciiva.com/9449/0436500400-pcb-headers-9449446.pdf?src-supplier=Avnet; ComponentLink5Description: https://datasheet.ciiva.com/9449/0436500400-pcb-headers-9449446.pdf?src-supplier=Avnet; ComponentLink6URL: https://datasheet.ciiva.com/17080/70266896-17080471.pdf?src-supplier=Allied+Electronics; ComponentLink6Description: https://datasheet.ciiva.com/17080/70266896-17080471.pdf?src-supplier=Allied+Electronics; ComponentLink7URL: https://datasheet.ciiva.com/16654/0436500400-pcb-headers-16654968.pdf?src-supplier=Avnet+Europe; ComponentLink7Description: https://datasheet.ciiva.com/16654/0436500400-pcb-headers-16654968.pdf?src-supplier=Avnet+Europe; ComponentLink8URL: https://datasheet.ciiva.com/7094/1946229-7094763.pdf?src-supplier=Newark; ComponentLink8Description: https://datasheet.ciiva.com/7094/1946229-7094763.pdf?src-supplier=Newark; ComponentLink9URL: https://datasheet.ciiva.com/30221/142510436500400-pcb-headers-30221164.pdf?src-supplier=Onlinecomponents.com; ComponentLink9Description: https://datasheet.ciiva.com/30221/142510436500400-pcb-headers-30221164.pdf?src-supplier=Onlinecomponents.com
footprint 436500400 (MOLEX MicroFit RA 4P)
pins: 1, 2, 3, 4

## 43650-0500
designator J?, comment Micro-Fit RA HDR  Supplier Part Number 1: WM1863-ND
CONN HEADER R/A 5POS 3MM; Manufacturer 1: Molex Waldom; Manufacturer Part Number 1: 43650-0500; Number of Positions: 5; Gender: Male; Voltage Rating (DC): 250V; Current Rating: 5A; Glow Wire Compliant: Compliant; Supplier 1: Digi-Key; Stock 1: 4169; Pricing 1: 1=1.54000, 10=1.39500, 100=1.19550, 500=0.99628, 1000=0.85395, 5000=0.75717, 10000=0.74009 (USD); RoHS: No; Color: Black; Contact Material: Brass; Housing Color: Black; Contact Plating: Tin; Housing Material: Thermoplastic; Orientation: Right Angle; Packaging: Tray; Number of Contacts: 5; Number of Rows: 1; Number of Circuits: 5; Length: 18.6mm; Height: 4.37mm; Width: 9.9mm; Flammability Rating: UL94 V-0; Halogen Free: Low Halogen; Lead Free: Contains Lead; ComponentLink1URL: https://datasheet.ciiva.com/24411/0436500500-pcb-headers-24411329.pdf?src-supplier=Onlinecomponents.com; ComponentLink1Description: https://datasheet.ciiva.com/24411/0436500500-pcb-headers-24411329.pdf?src-supplier=Onlinecomponents.com
footprint 436500500 (MOLEX MicroFit RA 5P)
pins: 1, 2, 3, 4, 5

## BQ40Z50RSMR-R2
designator U?  Supplier Part Number 1: 296-49567-1-ND
1-4 series Li-ion battery pack manager supporting Turbo Mode 2.0 32-VQFN -40 to 85; Manufacturer 1: Texas Instruments; Fault Protection: Over Current,Over Temperature,Short Circuit,Over/Under Voltage; Interface: SMBus; Supplier 1: Digi-Key; Manufacturer Part Number 1: BQ40Z50RSMR-R2; Stock 1: 2467; Pricing 1: 1=5.59000, 10=5.02200, 25=4.74760, 100=3.90350, 250=3.50260, 500=3.37600, 1000=2.80630 (USD); RoHS: No; Case/Package: VQFN; Min Operating Temperature: -40°C; Max Operating Temperature: 85°C; Packaging: Cut Tape; ComponentLink1URL: http://www.ti.com/lit/ds/symlink/bq40z50-r2.pdf?src-supplier=Digi-Key; ComponentLink1Description: http://www.ti.com/lit/ds/symlink/bq40z50-r2.pdf?src-supplier=Digi-Key
footprint QFN40P400X400X100_HS-33N (QFN, 32-Leads, Body 4.00x4.00mm, Pitch 0.40mm, Thermal Pad 1.40x1.40mm, IPC Medium Density)
pins: 1 PBI, 2 VC4, 3 VC3, 4 VC2, 5 VC1, 6 SRN, 7 NC, 8 SRP, 9 VSS, 10 TS1, 11 TS2, 12 TS3, 13 TS4, 14 NC, 15 BTP_INT, 16 ~{PRES}, 17 ~{DISP}, 18 SMBD, 19 SMBC, 20 LEDA, 21 LEDB, 22 LEDC, 23 PTC, 24 PTCEN, 25 FUSE, 26 VCC, 27 PACK, 28 DSG, 29 NC, 30 PCHG, 31 CHG, 32 BAT, 33 PAD

## BQ294700DSGR
designator U?  Supplier Part Number 1: 296-34984-1-ND
IC BATT PROT 2-4CELL LIION 8WSON; Manufacturer 1: Texas Instruments; Output Voltage: 30V; Output Current: 4.5mA; Operating Supply Current: 1uA; Operating Supply Voltage: 20V; Supplier 1: Digi-Key; Manufacturer Part Number 1: BQ294700DSGR; Stock 1: 15401; Pricing 1: 1=0.86000, 10=0.75900, 25=0.71320, 100=0.54050, 250=0.46000, 500=0.43700, 1000=0.33350 (USD); RoHS: Yes; Mount: Surface Mount; Number of Pins: 8; Contact Plating: Gold; Min Operating Temperature: -40°C; Max Operating Temperature: 85°C; Packaging: Tape and Reel; Package Quantity: 1; Lead Free: Lead Free; ComponentLink1URL: https://datasheet.ciiva.com/6613/bq294700-6613741.pdf?src-supplier=Digi-Key; ComponentLink1Description: https://datasheet.ciiva.com/6613/bq294700-6613741.pdf?src-supplier=Digi-Key; ComponentLink2URL: https://datasheet.ciiva.com/6613/bq294700-6613742.pdf?src-supplier=Digi-Key; ComponentLink2Description: https://datasheet.ciiva.com/6613/bq294700-6613742.pdf?src-supplier=Digi-Key; ComponentLink3URL: https://datasheet.ciiva.com/6613/bq294700-6613743.pdf?src-supplier=Digi-Key; ComponentLink3Description: https://datasheet.ciiva.com/6613/bq294700-6613743.pdf?src-supplier=Digi-Key
footprint SON50P200X80_HS-9N (SON, 8-Leads, Body 2.00x2.00mm, Pitch 0.50mm, Thermal Pad 1.60x0.69mm, IPC Medium Density)
pins: 1 VDD, 2 V4, 3 V3, 4 V2, 5 V1, 6 VSS, 7 CD, 8 OUT, 9 EP

## BSC093N04LSG
designator Q?  Supplier Part Number 1: BSC093N04LSGATMA1CT-ND
Trans MOSFET N-CH 40V 13A 8-Pin TDSON T/R; Manufacturer 1: Infineon; Input Capacitance: 1.9nF; Max Power Dissipation: 35W; Rds On Max: 9.3mR; Rise Time: 2.4ns; Continuous Drain Current (ID): 49A; Fall Time: 2.8ns; Power Dissipation: 2.5W; Turn-Off Delay Time: 16ns; Turn-On Delay Time: 3.6ns; Gate to Source Voltage (Vgs): 20V; Threshold Voltage: 1.2V; Element Configuration: Single; Supplier 1: Digi-Key; Manufacturer Part Number 1: BSC093N04LSG; Stock 1: 55136; Pricing 1: 1=0.75000, 10=0.66400, 25=0.62360, 100=0.45270, 500=0.37826, 1000=0.32192, 2500=0.30180 (USD); RoHS: Yes; Number of Pins: 8; Contact Plating: Tin,Matte; Min Operating Temperature: -55°C; Max Operating Temperature: 150°C; Packaging: Tape and Reel; Drain to Source Voltage (Vdss): 40V; Package Quantity: 1; Drain to Source Breakdown Voltage: 40V; Drain to Source Resistance: 9.3mR; Length: 6.35mm; Height: 1.1mm; Width: 5.35mm; REACH SVHC: No SVHC; Halogen Free: Halogen Free; ComponentLink1URL: https://datasheet.ciiva.com/6368/infineon-bsc093n04lsg-ds-v02-01-en-6368839.pdf?src-supplier=Digi-Key; ComponentLink1Description: https://datasheet.ciiva.com/6368/infineon-bsc093n04lsg-ds-v02-01-en-6368839.pdf?src-supplier=Digi-Key; ComponentLink2URL: https://datasheet.ciiva.com/6368/infineon-bsc093n04lsg-ds-v02-01-en-6368842.pdf?src-supplier=Digi-Key; ComponentLink2Description: https://datasheet.ciiva.com/6368/infineon-bsc093n04lsg-ds-v02-01-en-6368842.pdf?src-supplier=Digi-Key; ComponentLink3URL: https://datasheet.ciiva.com/6368/infineon-bsc093n04lsg-ds-v02-01-en-6368845.pdf?src-supplier=Digi-Key; ComponentLink3Description: https://datasheet.ciiva.com/6368/infineon-bsc093n04lsg-ds-v02-01-en-6368845.pdf?src-supplier=Digi-Key; ComponentLink4URL: https://datasheet.ciiva.com/11171/infineon-bsc093n04lsg-ds-v02-01-en-11171887.pdf?src-supplier=Avnet; ComponentLink4Description: https://datasheet.ciiva.com/11171/infineon-bsc093n04lsg-ds-v02-01-en-11171887.pdf?src-supplier=Avnet
footprint TDSON-8 (Infineon MOSFETs)
pins: 1 S, 4 G, 5 D

## ITV4030L1412
designator F?, comment Chemical fuse  Supplier Part Number 1: 18-ITV4030L1412CT-ND
36V 12A controllable fuse; Manufacturer 1: Littelfuse; Manufacturer Part Number 1: ITV4030L1412; Supplier 1: Digi-Key; Stock 1: 4981; Pricing 1: 1=4.52000, 5=4.36400, 10=4.20800, 50=3.27260, 100=2.72710, 250=2.64924, 500=2.25964, 1000=2.14276 (USD); RoHS: No; ComponentLink1Description: datasheet; ComponentLink1URL: https://m.littelfuse.com/~/media/electronics/datasheets/resettable_ptcs/littelfuse_battery_protectors_itv4030_12a_datasheet.pdf.pdf
footprint ITV4030Lxxxx (Battery Protector/Controllable Fuse)
pins: 1, 2, 3

## MM3Z5V6ST1G
designator D2
DIODE ZENER 5.6V 200MW SOD323; Manufacturer 1: ON Semiconductor; Material: Plastic; Tolerance: 2%; Impedance: 40R; Max Reverse Leakage Current: 1uA; Test Current: 5mA; Element Configuration: Single; ESD Protection: Yes; Forward Voltage: 900mV; Zener Current: 10mA; Supplier 1: Digi-Key; Manufacturer Part Number 1: MM3Z5V6ST1G; Stock 1: 337246; Pricing 1: 1=0.13000, 10=0.11800, 25=0.11240, 100=0.04950, 250=0.04752, 500=0.03888, 1000=0.02700 (USD); RoHS: Yes; Case/Package: SOD-323-2; Number of Pins: 2; Contact Plating: Tin,Matte; Min Operating Temperature: -65°C; Max Operating Temperature: 150°C; Packaging: Tape and Reel; Package Quantity: 1; Max Power Dissipation: 200mW; Zener Voltage: 5.6V; Voltage Tolerance: 2%; Voltage Rating (DC): 5.6V; Power Rating: 200mW; Power Dissipation: 200mW; Working Voltage: 5.6V; Peak Reverse Current: 1uA; Length: 1.8mm; Height: 1mm; Width: 1.35mm; Radiation Hardening: No; Lead Free: Lead Free; REACH SVHC: No SVHC; ComponentLink1URL: https://datasheet.ciiva.com/894/mm3z2v4st1-d-894656.pdf?src-supplier=Digi-Key; ComponentLink1Description: https://datasheet.ciiva.com/894/mm3z2v4st1-d-894656.pdf?src-supplier=Digi-Key; ComponentLink2URL: https://datasheet.ciiva.com/30478/0900766b8127c8bd-30478396.pdf?src-supplier=RSComponents; ComponentLink2Description: https://datasheet.ciiva.com/30478/0900766b8127c8bd-30478396.pdf?src-supplier=RSComponents; ComponentLink3URL: https://datasheet.ciiva.com/15141/getdatasheetpartid-38592-15141978.pdf?src-supplier=Verical; ComponentLink3Description: https://datasheet.ciiva.com/15141/getdatasheetpartid-38592-15141978.pdf?src-supplier=Verical; ComponentLink4URL: https://datasheet.ciiva.com/894/mm3z2v4st1-d-894657.pdf?src-supplier=Digi-Key; ComponentLink4Description: https://datasheet.ciiva.com/894/mm3z2v4st1-d-894657.pdf?src-supplier=Digi-Key; ComponentLink5URL: https://datasheet.ciiva.com/26093/mm3z2v4st1-d-26093062.pdf?src-supplier=Avnet+Europe; ComponentLink5Description: https://datasheet.ciiva.com/26093/mm3z2v4st1-d-26093062.pdf?src-supplier=Avnet+Europe; ComponentLink6URL: https://datasheet.ciiva.com/894/mm3z2v4st1-d-894655.pdf?src-supplier=Digi-Key; ComponentLink6Description: https://datasheet.ciiva.com/894/mm3z2v4st1-d-894655.pdf?src-supplier=Digi-Key; ComponentLink7URL: https://datasheet.ciiva.com/16202/mm3z2v4t1-d-16202392.pdf?src-supplier=Future+Electronics; ComponentLink7Description: https://datasheet.ciiva.com/16202/mm3z2v4t1-d-16202392.pdf?src-supplier=Future+Electronics; Supplier Part Number 1: MM3Z5V6ST1GOSCT-ND
footprint SOD_323_GENERIC (SMT diode)
pins: 1 A, 2 K

## PMV40UN2R
designator Q?  Supplier Part Number 1: 1727-1900-1-ND
PMV40UN2 Series 30 V 44 mOhm 3.7 A SMT N-Channel TrenchMOS FET - TO-236AB; Manufacturer 1: Nexperia; Supplier 1: Digi-Key; Manufacturer Part Number 1: PMV40UN2R; Stock 1: 189039; Pricing 1: 1=0.39000, 10=0.29300, 25=0.26400, 100=0.13920, 500=0.12336, 1000=0.09600 (USD); RoHS: No; ComponentLink1URL: http://www.farnell.com/datasheets/2242071.pdf?src-supplier=Farnell; ComponentLink1Description: http://www.farnell.com/datasheets/2242071.pdf?src-supplier=Farnell; ComponentLink2URL: http://www.farnell.com/datasheets/2242071.pdf?src-supplier=Newark; ComponentLink2Description: http://www.farnell.com/datasheets/2242071.pdf?src-supplier=Newark; ComponentLink3URL: http://www.farnell.com/datasheets/2242071.pdf?src-supplier=Element14; ComponentLink3Description: http://www.farnell.com/datasheets/2242071.pdf?src-supplier=Element14
footprint SOT-23_GENERIC
pins: 1 G, 2 S, 3 D

## TP_5021
designator TP?, comment Test Point TH  (value not drawn)
Thru Hole Mount Unisulated Test Point; Manufacturer 1: Keystone Electronics; Manufacturer Part Number 1: 5021; Plating: Silver; Body Material: Bronze; Supplier 1: Digi-Key; Stock 1: 36492; Pricing 1: 1=0.23000, 25=0.18760, 100=0.17820, 250=0.16780, 500=0.15050, 1000=0.10548, 2500=0.09669, 5000=0.09376, 10000=0.08497 (USD); RoHS: Yes; Mount: Through Hole; Contact Material: Bronze; Contact Plating: Silver; Color: Silver; Material: Bronze,Silver; Package Quantity: 100; Packaging: Bulk; Lead Free: Lead Free; REACH SVHC: No SVHC; ComponentLink1URL: https://datasheet.ciiva.com/15242/5021-15242766.pdf?src-supplier=Arrow+Europe; ComponentLink1Description: https://datasheet.ciiva.com/15242/5021-15242766.pdf?src-supplier=Arrow+Europe; ComponentLink2URL: https://datasheet.ciiva.com/2917/5021-2917622.pdf?src-supplier=Digi-Key; ComponentLink2Description: https://datasheet.ciiva.com/2917/5021-2917622.pdf?src-supplier=Digi-Key; Supplier Part Number 1: 36-5021-ND
footprint TP_5021 (Test point, low profile)
pins: 1